# EAGLE library part SDCARD_PCBCARRIER (library microbuilder)
Physical PCB representing an SD Card
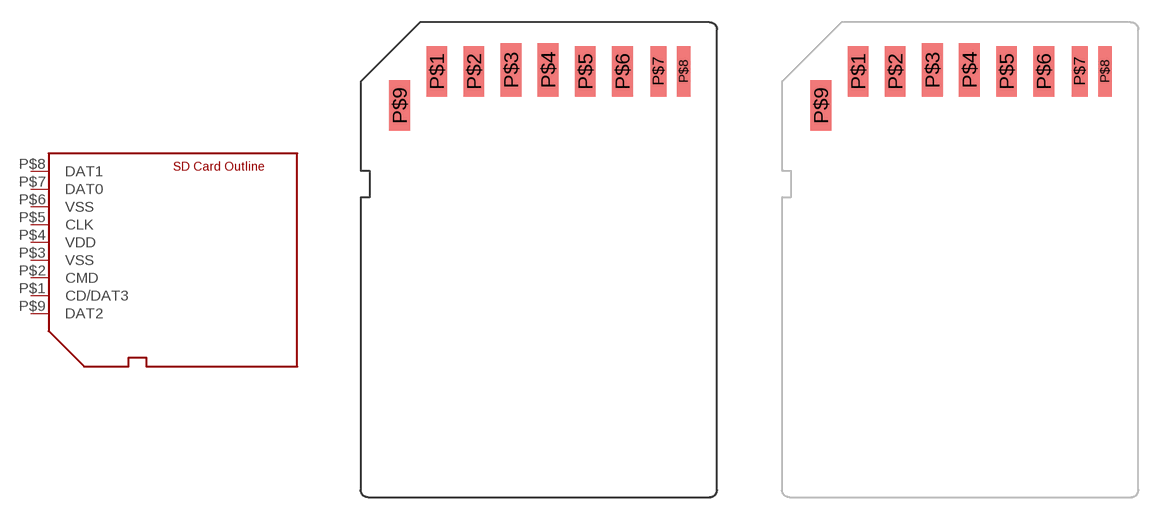
[diagram p215: symbol with the pads of SDCARD_PCBCARRIER_DIM; footprints SDCARD_PCBCARRIER_DIM, SDCARD_PCBCARRIER_DOCU]

Designator prefix -

## SDCARD_PCBCARRIERDIMEN  [SDCARD_PCBCARRIER_DIM]
P$1  CD/DAT3
P$2  CMD
P$3  VSS  pwr
P$4  VDD  pwr
P$5  CLK
P$6  VSS  pwr
P$7  DAT0
P$8  DAT1
P$9  DAT2

## SDCARD_PCBCARRIERTDOCU  [SDCARD_PCBCARRIER_DOCU]
Pads as for SDCARD_PCBCARRIER_DIM

## Footprint SDCARD_PCBCARRIER_DIM (pad centres in mm)
SD Card outline using the dimension layer Source: SD Card Standard v1.9
smd 1.4 x 3.4: P$1 -6.875,0; P$2 -4.375,0; P$5 3.125,0; P$6 5.625,0; P$9 -9.375,-2.3
smd 1.4 x 3.6: P$3 -1.875,0.1; P$4 0.625,0.1
smd 1.1 x 3.4: P$7 8.05,0
smd 0.9 x 3.4: P$8 9.75,0

## Footprint SDCARD_PCBCARRIER_DOCU (pad centres in mm)
smd 1.4 x 3.4: P$1 -6.875,0; P$2 -4.375,0; P$5 3.125,0; P$6 5.625,0; P$9 -9.375,-2.3
smd 1.4 x 3.6: P$3 -1.875,0.1; P$4 0.625,0.1
smd 1.1 x 3.4: P$7 8.05,0
smd 0.9 x 3.4: P$8 9.75,0